# EAGLE library part AVR_MINI_ICSP_SPI (library atmel-samd)
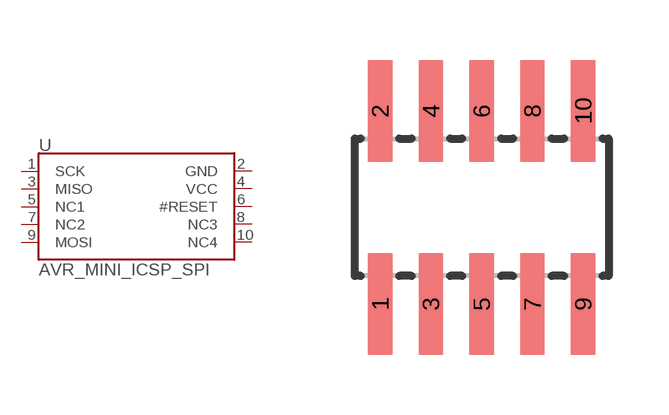
[diagram p3: symbol with the pads of SAMTECH_FTSH-105-01; footprint SAMTECH_FTSH-105-01]

Designator prefix -

## AVR_MINI_ICSP_SPI  [SAMTECH_FTSH-105-01]
1  SCK
2  GND  pwr
3  MISO
4  VCC  pwr
5  NC1  nc
6  #RESET
7  NC2  nc
8  NC3  nc
9  MOSI
10  NC4  nc

## Footprint SAMTECH_FTSH-105-01 (pad centres in mm)
ARM Cortex Debug Connector (10-pin) Specifications: Pin count:10 Pin pitch:0.05" Datasheet referenced for footprint <https://www.samtec.com/ftppub/cpdf/FTSH-1XX-XX-XXX-DV-XXX-MKT.pdf> Example device(s): CORTEX_DEBUG
smd 0.61 x 2.54: 1 -2.54,-2.413; 2 -2.54,2.413; 3 -1.27,-2.413; 4 -1.27,2.413; 5 0,-2.413; 6 0,2.413; 7 1.27,-2.413; 8 1.27,2.413; 9 2.54,-2.413; 10 2.54,2.413